# Altium schematic symbol library optocoupler.SCHLIB: 71 symbols
Pins are listed as number, name and electrical type; pins without a type are passive.

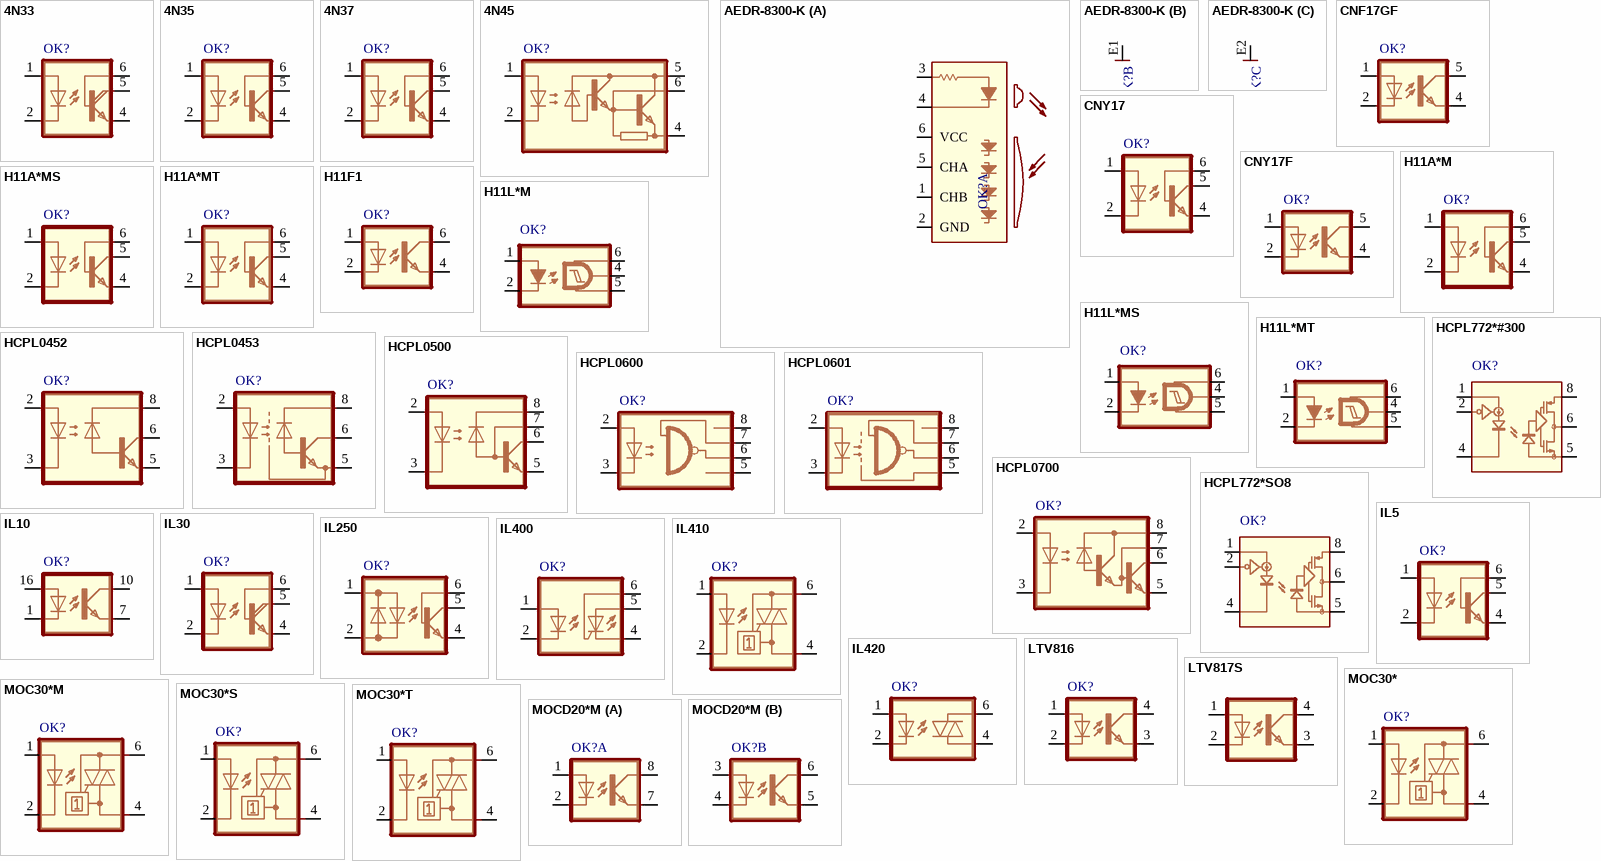
[diagram p0: symbols 4N33 to MOCD20*M]

## 4N33
designator OK?, comment MOTOROLA OPTO COUPLER  (value not drawn)
Part Number: 4N33; Vendor: VISHAY/TELEFUNKEN; Família: Circuitos Integrados
footprint DIL06
pins: 1 A, 2 C, 4 E, 5 COL, 6 B

## 4N35
designator OK?, comment MOTOROLA OPTO COUPLER  (value not drawn)
Part Number: 4N35; Vendor: FAIRCHILD SEMICONDUCTOR; Família: Circuitos Integrados
footprint DIL06
pins: 1 A, 2 C, 4 EMI, 5 COL, 6 BAS

## 4N37
designator OK?, comment OPTO COUPLER   Source: http://www.fairchildsemi.com/pf/4N/4N35-M.html  (value not drawn)
Part Number: 4N37; Vendor: FAIRCHILD SEMICONDUCTOR; Família: Circuitos Integrados
footprint DIL06
pins: 1 A, 2 C, 4 EMI, 5 COL, 6 BAS

## 4N45
designator OK?, comment MOTOROLA OPTO COUPLER  (value not drawn)
Part Number: 4N45; Vendor: AGILENT TECHNOLOGIES; Família: Circuitos Integrados
footprint DIL06
pins: 1 A, 2 C, 4 GND, 5 VO, 6 B

## AEDR-8300-K
designator OK?, comment Agilent AEDR-8300 Series Encoders   Reflective Surface Mount Optical Encoder Source: http: http://www.avagotech.com .. AV02-0088EN-1.pdf  (value not drawn)
Part Number: AEDR-8300-1P2; Vendor: AGILENT TECHNOLOGIES; Família: Circuitos Integrados
footprint AEDR-8300
part A pins: 1 CHB, 2 GND, 3 A, 4 C, 5 CHA, 6 VCC
part B pins: E1 GND
part C pins: E2 GND

## CNF17GF
designator OK?, comment HEWLETT PACKARD OPTO COUPLER  (value not drawn)
Família: Circuitos Integrados
footprint DIL06B
pins: 1 A, 2 C, 4 EMIT, 5 COL

## CNY17
designator OK?, comment SIEMENS OPTO COUPLER  (value not drawn)
Part Number: CNY17-1; Família: Circuitos Integrados
footprint DIL06
pins: 1 A, 2 C, 4 EMI, 5 COL, 6 BAS

## CNY17F
designator OK?, comment SIEMENS OPTO COUPLER  (value not drawn)
Part Number: CNY17F-3; Vendor: VISHAY/TELEFUNKEN; Família: Circuitos Integrados
footprint DIL06
pins: 1 A, 2 C, 4 EMIT, 5 COL

## H11A*M
designator OK?, comment General Purpose 6-Pin Phototransistor Optocouplers   Source: http://www.fairchildsemi.com/ds/4N/4N35-M.pdf  (value not drawn)
Part Number: H11A5M; Vendor: FAIRCHILD SEMICONDUCTOR; Família: Circuitos Integrados
footprint DIL06
pins: 1 A, 2 C, 4 EMI, 5 COL, 6 BAS

## H11A*MS
designator OK?, comment General Purpose 6-Pin Phototransistor Optocouplers   Source: http://www.fairchildsemi.com/ds/4N/4N35-M.pdf  (value not drawn)
Família: Circuitos Integrados
footprint DIL6-SMD
pins: 1 A, 2 C, 4 EMI, 5 COL, 6 BAS

## H11A*MT
designator OK?, comment General Purpose 6-Pin Phototransistor Optocouplers   Source: http://www.fairchildsemi.com/ds/4N/4N35-M.pdf  (value not drawn)
Família: Circuitos Integrados
footprint DIL6-04
pins: 1 A, 2 C, 4 EMI, 5 COL, 6 BAS

## H11F1
designator OK?, comment OPTO COUPLER OPTO COUPLER  (value not drawn)
Família: Circuitos Integrados
footprint DIL05
pins: 1 A, 2 C, 4 EMIT, 6 COL

## H11L*M
designator OK?, comment 6-Pin DIP Optocoupler   Source: http://www.fairchildsemi.com/ds/H1/H11L2-M.pdf  (value not drawn)
Part Number: H11L3-M; Vendor: FAIRCHILD SEMICONDUCTOR; Família: Circuitos Integrados
footprint DIL06
pins: 1 A, 2 C, 4 OUT, 5 GND, 6 VCC

## H11L*MS
designator OK?, comment 6-Pin DIP Optocoupler   Source: http://www.fairchildsemi.com/ds/H1/H11L2-M.pdf  (value not drawn)
Família: Circuitos Integrados
footprint DIL6-SMD
pins: 1 A, 2 C, 4 OUT, 5 GND, 6 VCC

## H11L*MT
designator OK?, comment 6-Pin DIP Optocoupler   Source: http://www.fairchildsemi.com/ds/H1/H11L2-M.pdf  (value not drawn)
Família: Circuitos Integrados
footprint DIL6-04
pins: 1 A, 2 C, 4 OUT, 5 GND, 6 VCC

## HCPL0452
designator OK?, comment HEWLETT PACKARD OPTO COUPLER  (value not drawn)
Part Number: HCPL0452; Vendor: FAIRCHILD SEMICONDUCTOR; Família: Circuitos Integrados
footprint SOIC08
pins: 2 A, 3 C, 5 GND, 6 VO, 8 VCC

## HCPL0453
designator OK?, comment HEWLETT PACKARD OPTO COUPLER  (value not drawn)
Part Number: HCPL-0453-000E; Vendor: AGILENT TECHNOLOGIES; Família: Circuitos Integrados
footprint SOIC08
pins: 2 A, 3 C, 5 GND, 6 VO, 8 VCC

## HCPL0500
designator OK?, comment HEWLETT PACKARD OPTO COUPLER  (value not drawn)
Part Number: HCPL-0500-000E; Vendor: AGILENT TECHNOLOGIES; Família: Circuitos Integrados
footprint SOIC08
pins: 2 A, 3 C, 5 GND, 6 VO, 7 VB, 8 VCC

## HCPL0600
designator OK?, comment HEWLETT PACKARD OPTO COUPLER  (value not drawn)
Part Number: HCPL-0600-000E; Vendor: AGILENT TECHNOLOGIES; Família: Circuitos Integrados
footprint SOIC08
pins: 2 A, 3 C, 5 GND, 6 VO, 7 VE, 8 VCC

## HCPL0601
designator OK?, comment HEWLETT PACKARD OPTO COUPLER  (value not drawn)
Part Number: HCPL-0601-000E; Vendor: AGILENT TECHNOLOGIES; Família: Circuitos Integrados
footprint SOIC08
pins: 2 A, 3 C, 5 GND, 6 VO, 7 VE, 8 VCC

## HCPL0700
designator OK?, comment HEWLETT PACKARD OPTO COUPLER  (value not drawn)
Part Number: HCPL-0700-000E; Vendor: AGILENT TECHNOLOGIES; Família: Circuitos Integrados
footprint SOIC08
pins: 2 A, 3 C, 5 GND, 6 VO, 7 VB, 8 VCC

## HCPL772*#300
designator OK?, comment 40 ns Propagation Delay, CMOS Optocoupler   *Pin 3 is the anode of the internal LED and must be left unconnected for guaranteed data sheet perfomance. Pin 7 is not connected internally. Source: HCPL7721.pdf  (value not drawn)
Part Number: HCPL-7721-300E; Vendor: AGILENT TECHNOLOGIES; Família: Circuitos Integrados
footprint SO8-GW300
pins: 1 VDD1, 2 VI, 4 GND1, 5 GND2, 6 VO, 8 VDD2

## HCPL772*SO8
designator OK?, comment 40 ns Propagation Delay, CMOS Optocoupler   *Pin 3 is the anode of the internal LED and must be left unconnected for guaranteed data sheet perfomance. Pin 7 is not connected internally. Source: HCPL7721.pdf  (value not drawn)
Part Number: HCPL-7721-300E; Vendor: AGILENT TECHNOLOGIES; Família: Circuitos Integrados
footprint SO-8
pins: 1 VDD1, 2 VI, 4 GND1, 5 GND2, 6 VO, 8 VDD2

## IL5
designator OK?, comment SIEMENS OPTO COUPLER  (value not drawn)
Part Number: IL5; Vendor: VISHAY/TELEFUNKEN; Família: Circuitos Integrados
footprint DIL06
pins: 1 A, 2 C, 4 EMI, 5 COL, 6 BAS

## IL10
designator OK?, comment SIEMENS OPTO COUPLER  (value not drawn)
Família: Circuitos Integrados
footprint DIL16-4_1_7_10_16
pins: 1 C, 7 EMIT, 10 COL, 16 A

## IL30
designator OK?, comment SIEMENS OPTO COUPLER  (value not drawn)
Part Number: IL30; Vendor: VISHAY/TELEFUNKEN; Família: Circuitos Integrados
footprint DIL06
pins: 1 A, 2 C, 4 E, 5 COL, 6 B

## IL250
designator OK?, comment SIEMENS OPTO COUPLER  (value not drawn)
Part Number: IL250; Vendor: VISHAY/TELEFUNKEN; Família: Circuitos Integrados
footprint DIL06
pins: 1 AC1, 2 AC2, 4 E, 5 C, 6 B

## IL400
designator OK?, comment SIEMENS OPTO COUPLER  (value not drawn)
Família: Circuitos Integrados
footprint DIL06
pins: 1 A, 2 C, 4 CT, 5 AT, 6 G

## IL410
designator OK?, comment SIEMENS OPTO COUPLER  (value not drawn)
Part Number: IL410; Vendor: VISHAY/TELEFUNKEN; Família: Circuitos Integrados
footprint DIL06
pins: 1 A, 2 C, 4 A1, 6 A2

## IL420
designator OK?, comment SIEMENS OPTO COUPLER  (value not drawn)
Part Number: IL420; Vendor: VISHAY/TELEFUNKEN; Família: Circuitos Integrados
footprint DIL06
pins: 1 A, 2 C, 4 A1, 6 A2

## LTV816
designator OK?, comment OPTO COUPLER   Source: LITEON, LTV816.pdf  (value not drawn)
Família: Circuitos Integrados
footprint DIL04
footprint SMD4
pins: 1 A, 2 C, 3 EMIT, 4 COL

## LTV817S
designator OC*, comment 5KV Photocoupler  (value not drawn)
Família: Circuitos Integrados
footprint SMD4-7
footprint DIL04_var1
pins: 1 A, 2 C, 3 EMIT, 4 COL

## MOC30*
designator OK?, comment 6-Pin DIP Zero-Cross Optoisolators Triac Driver Output (250/400 Volt Peak)   Source:  The old path of data sheet not more available 2013-05-06.  (value not drawn)
Part Number: MOC3043-M; Vendor: FAIRCHILD SEMICONDUCTOR; Família: Circuitos Integrados
footprint DIL06
pins: 1 A, 2 C, 4 A1, 6 A2

## MOC30*M
designator OK?, comment RANDOM-PHASE OPTOISOLATORS TRIAC DRIVER OUTPUT   Source: http://www.fairchildsemi.com MOC3020-M.pdf  (value not drawn)
Part Number: MOC3023-M; Vendor: FAIRCHILD SEMICONDUCTOR; Família: Circuitos Integrados
footprint DIL06
pins: 1 A, 2 C, 4 A1, 6 A2

## MOC30*S
designator OK?, comment 6-Pin DIP Zero-Cross Optoisolators Triac Driver Output (250/400 Volt Peak)   Source:  The old path of data sheet not more available 2013-05-06.  (value not drawn)
Part Number: MOC3043SM; Vendor: FAIRCHILD SEMICONDUCTOR; Família: Circuitos Integrados
footprint DIL6-SMD
pins: 1 A, 2 C, 4 A1, 6 A2

## MOC30*T
designator OK?, comment 6-Pin DIP Zero-Cross Optoisolators Triac Driver Output (250/400 Volt Peak)   Source:  The old path of data sheet not more available 2013-05-06.  (value not drawn)
Part Number: MOC3043TM; Vendor: FAIRCHILD SEMICONDUCTOR; Família: Circuitos Integrados
footprint DIL06B
pins: 1 A, 2 C, 4 A1, 6 A2

## MOCD20*M
designator OK?, comment MOCD207M, MOCD208M Dual Channel Phototransistor Small Outline Surface Mount Optocouplers   Source:  Data sheet  (value not drawn)
Vendor: FAIRCHILD SEMICONDUCTOR; Família: Circuitos Integrados; Part Number: MOCD208M
footprint SOIC08-FAIRCHILD
part A pins: 1 A, 2 C, 7 EMIT, 8 COL
part B pins: 3 A, 4 C, 5 EMIT, 6 COL

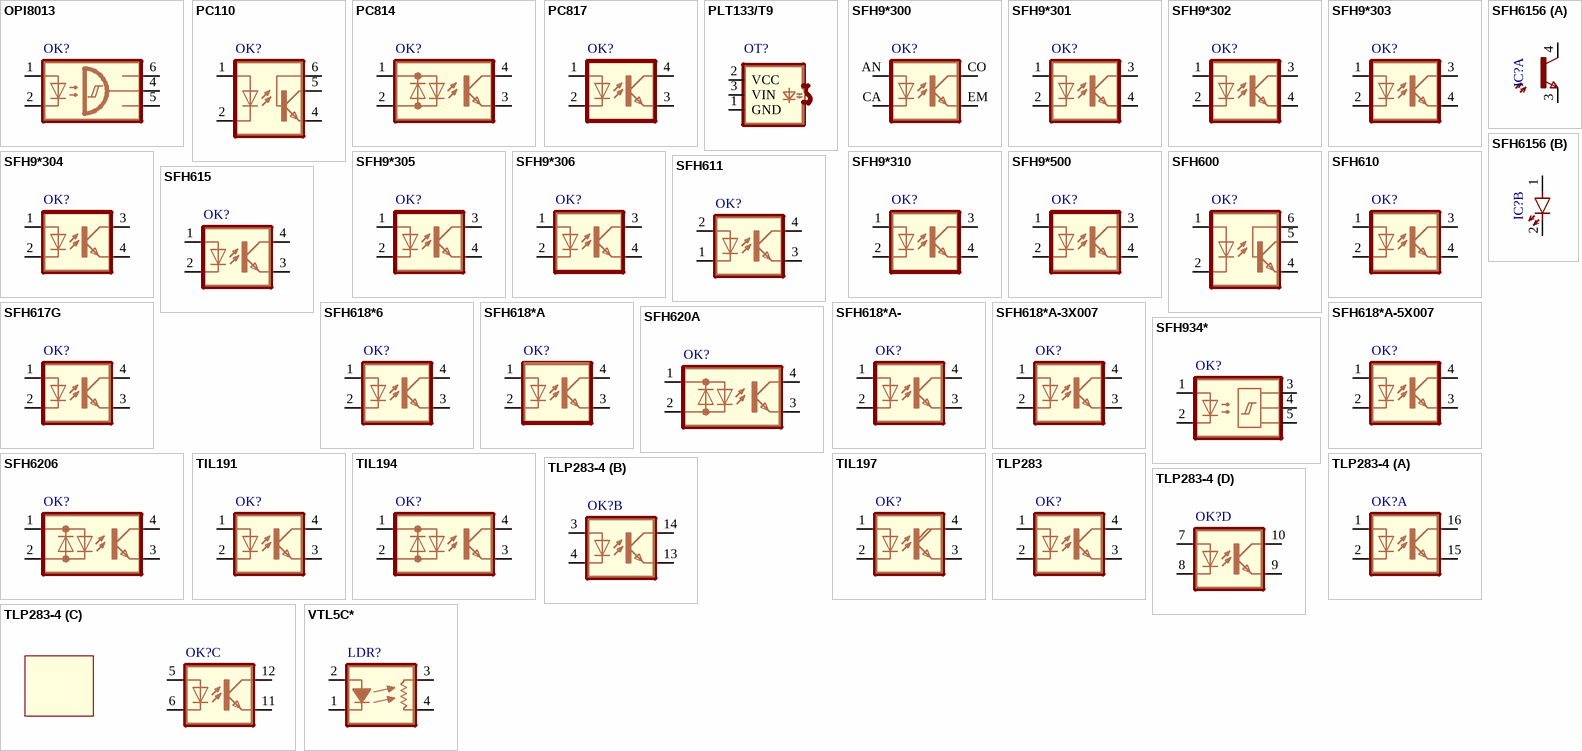
[diagram p1: symbols OPI8013 to VTL5C*]

## OPI8013
designator OK?, comment OPTO COUPLER  (value not drawn)
Família: Circuitos Integrados
footprint DIL06
pins: 1 A, 2 C, 4 OUT, 5 GND, 6 VCC

## PC110
designator OK?, comment SHARP OPTO COUPLER  (value not drawn)
Família: Circuitos Integrados
footprint DIL06
pins: 1 A, 2 C, 4 EMI, 5 COL, 6 BAS

## PC814
designator OK?, comment SHARP OPTO COUPLER  (value not drawn)
Família: Circuitos Integrados
footprint DIL04
pins: 1 AC1, 2 AC2, 3 E, 4 C

## PC817
designator OK?, comment SHARP OPTO COUPLER  (value not drawn)
Part Number: PC817X4J000F; Família: Circuitos Integrados
footprint DIL04
pins: 1 A, 2 C, 3 EMIT, 4 COL

## PLT133/T9
designator OT?, comment Photolink- Fiber Optic Transmitter   Source: EVERLIGHT Foto_Link_PLT133_T9_datasheet.pdf http://www.everlight.com  (value not drawn)
Família: Circuitos Integrados
footprint PLT133/T9
pins: 1 GND, 2 VCC, 3 VIN

## SFH9*300
designator OK?, comment Slotted Interrupter / Gabellichtschranke   Source: http://www.osram.convergy.de/  (value not drawn)
Família: Circuitos Integrados
footprint SFH9300
pins: AN A, CA C, CO COL, EM EMIT

## SFH9*301
designator OK?, comment Slotted Interrupter / Gabellichtschranke   Source: http://www.osram.convergy.de/  (value not drawn)
Família: Circuitos Integrados
footprint SFH9301
pins: 1 A, 2 C, 3 COL, 4 EMIT

## SFH9*302
designator OK?, comment Slotted Interrupter / Gabellichtschranke   Source: http://www.osram.convergy.de/  (value not drawn)
Família: Circuitos Integrados
footprint SFH9302
pins: 1 A, 2 C, 3 COL, 4 EMIT

## SFH9*303
designator OK?, comment Slotted Interrupter / Gabellichtschranke   Source: http://www.osram.convergy.de/  (value not drawn)
Família: Circuitos Integrados
footprint SFH9303
pins: 1 A, 2 C, 3 COL, 4 EMIT

## SFH9*304
designator OK?, comment Slotted Interrupter / Gabellichtschranke   Source: http://www.osram.convergy.de/  (value not drawn)
Família: Circuitos Integrados
footprint SFH9304
pins: 1 A, 2 C, 3 COL, 4 EMIT

## SFH9*305
designator OK?, comment Slotted Interrupter / Gabellichtschranke   Source: http://www.osram.convergy.de/  (value not drawn)
Família: Circuitos Integrados
footprint SFH9305
pins: 1 A, 2 C, 3 COL, 4 EMIT

## SFH9*306
designator OK?, comment Slotted Interrupter / Gabellichtschranke   Source: http://www.osram.convergy.de/  (value not drawn)
Família: Circuitos Integrados
footprint SFH9306
pins: 1 A, 2 C, 3 COL, 4 EMIT

## SFH9*310
designator OK?, comment Slotted Interrupter / Gabellichtschranke   Source: http://www.osram.convergy.de/  (value not drawn)
Família: Circuitos Integrados
footprint SFH9310
pins: 1 A, 2 C, 3 COL, 4 EMIT

## SFH9*500
designator OK?, comment Slotted Interrupter / Gabellichtschranke   Source: http://www.osram.convergy.de/  (value not drawn)
Família: Circuitos Integrados
footprint SFH9500
pins: 1 A, 2 C, 3 COL, 4 EMIT

## SFH600
designator OK?, comment SIEMENS OPTO COUPLER  (value not drawn)
Part Number: SFH600-1; Vendor: VISHAY/TELEFUNKEN; Família: Circuitos Integrados
footprint DIL06
pins: 1 A, 2 C, 4 EMI, 5 COL, 6 BAS

## SFH610
designator OK?, comment SIEMENS OPTO COUPLER  (value not drawn)
Part Number: SFH6106-4; Vendor: VISHAY/TELEFUNKEN; Família: Circuitos Integrados
footprint DIL04
pins: 1 A, 2 C, 3 COL, 4 EMIT

## SFH611
designator OK?, comment SIEMENS OPTO COUPLER  (value not drawn)
Família: Circuitos Integrados
footprint DIL04
pins: 1 C, 2 A, 3 EMIT, 4 COL

## SFH615
designator OK?, comment SIEMENS OPTO COUPLER  (value not drawn)
Part Number: SFH615A-2; Família: Circuitos Integrados
footprint DIL04
pins: 1 A, 2 C, 3 EMIT, 4 COL

## SFH617G
designator OK?, comment SIEMENS OPTO COUPLER  (value not drawn)
Part Number: SFH617A-3; Vendor: VISHAY/TELEFUNKEN; Família: Circuitos Integrados
footprint DIL04B
pins: 1 A, 2 C, 3 EMIT, 4 COL

## SFH618*6
designator OK?, comment Optocoupler, Phototransistor Output, Low Input Current   Source:  Data sheet  (value not drawn)
Part Number: SFH6186-5; Vendor: VISHAY/TELEFUNKEN; Família: Circuitos Integrados
footprint SMD4-7
pins: 1 A, 2 C, 3 EMIT, 4 COL

## SFH618*A
designator OK?, comment Optocoupler, Phototransistor Output, Low Input Current   Source:  Data sheet  (value not drawn)
Part Number: SFH618A-5; Vendor: VISHAY/TELEFUNKEN; Família: Circuitos Integrados
footprint DIP4
pins: 1 A, 2 C, 3 EMIT, 4 COL

## SFH618*A-
designator OK?, comment Optocoupler, Phototransistor Output, Low Input Current   Source:  Data sheet  (value not drawn)
Família: Circuitos Integrados
footprint DIP4-400
pins: 1 A, 2 C, 3 EMIT, 4 COL

## SFH618*A-3X007
designator OK?, comment Optocoupler, Phototransistor Output, Low Input Current   Source:  Data sheet  (value not drawn)
Família: Circuitos Integrados
footprint SMD4-7
pins: 1 A, 2 C, 3 EMIT, 4 COL

## SFH618*A-5X007
designator OK?, comment Optocoupler, Phototransistor Output, Low Input Current   Source:  Data sheet  (value not drawn)
Part Number: SFH618A-5X007; Família: Circuitos Integrados
footprint SMD4-7
pins: 1 A, 2 C, 3 EMIT, 4 COL

## SFH620A
designator OK?, comment Optocoupler, Phototransistor Output, AC Input   Source: http://www.vishay.com/docs/83675/sfh620.pdf  (value not drawn)
Part Number: SFH620A-2; Família: Circuitos Integrados
footprint DIL04
pins: 1 AC1, 2 AC2, 3 E, 4 C

## SFH934*
designator OK?, comment Slotted Interrupter with Schmitt-Trigger-IC   Gabellichtschranke mit Schmitt-Trigger IC Source: http://www.osram.convergy.de/ ... sfh9340.pdf  (value not drawn)
Família: Circuitos Integrados
footprint SFH9340
pins: 1 A, 2 C, 3 VCC, 4 OUT, 5 GND

## SFH6156
designator IC?, comment 5.3 kV TRIOS High Reliability Optocoupler  (value not drawn)
Part Number: SFH6156-4T; Vendor: VISHAY/TELEFUNKEN; Família: Circuitos Integrados
footprint SFH
part A pins: 3 E, 4 C
part B pins: 1 A, 2 K

## SFH6206
designator OK?, comment Optocoupler, Phototransistor Output, AC Input   Source: http://www.vishay.com/docs/83675/sfh620.pdf  (value not drawn)
Part Number: SFH6206-3; Vendor: VISHAY/TELEFUNKEN; Família: Circuitos Integrados
footprint DIL4-SMD
pins: 1 AC1, 2 AC2, 3 E, 4 C

## TIL191
designator OK?, comment TEXAS INSTRUMENTS OPTO COUPLER  (value not drawn)
Família: Circuitos Integrados
footprint DIL04
pins: 1 A, 2 C, 3 EMIT, 4 COL

## TIL194
designator OK?, comment TEXAS INSTRUMENTS OPTO COUPLER  (value not drawn)
Família: Circuitos Integrados
footprint DIL04
pins: 1 AC1, 2 AC2, 3 E, 4 C

## TIL197
designator OK?, comment TEXAS INSTRUMENTS OPTO COUPLER  (value not drawn)
Família: Circuitos Integrados
footprint DIL04
pins: 1 A, 2 C, 3 EMI, 4 COL

## TLP283
designator OK?, comment TOSHIBA PHOTOCOUPLER GaAs IRED & PHOTO-TRANSISTOR   Source: http://www.semicon.toshiba.co.jp/td/en/Opto/Photocoupler/en_20050928_TLP283_datasheet.pdf  (value not drawn)
Família: Circuitos Integrados
footprint MINI-FLAT-4
pins: 1 A, 2 C, 3 EMIT, 4 COL

## TLP283-4
designator OK?, comment TOSHIBA PHOTOCOUPLER GaAs IRED & PHOTO-TRANSISTOR   Source: http://www.semicon.toshiba.co.jp/td/en/Opto/Photocoupler/en_20050928_TLP283_datasheet.pdf  (value not drawn)
Família: Circuitos Integrados
footprint MINI-FLAT-16
part A pins: 1 A, 2 C, 15 EMIT, 16 COL
part B pins: 3 A, 4 C, 13 EMIT, 14 COL
part C pins: 5 A, 6 C, 11 EMIT, 12 COL
part D pins: 7 A, 8 C, 9 EMIT, 10 COL

## VTL5C*
designator LDR?, comment Low Cost Axial Vactrols   Source: www.perkinelmer.com/opto ... vtl5c9_c10.pdf  (value not drawn)
Part Number: VTL5C9; Vendor: VACTEC PHOTO; Família: Circuitos Integrados
footprint VTL5C
pins: 1 C, 2 A, 3 L1, 4 L2